# Altium schematic symbol library BFS17NTA.SchLib: 1 symbol
Pins are listed as number, name and electrical type; pins without a type are passive.

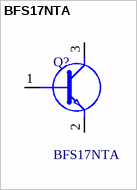
[diagram p0: symbol BFS17NTA]

## BFS17NTA
designator Q?
Diodes Inc BFS17NTA NPN RF Bipolar Transistor, 50 mA, 11 V, 3-Pin SOT-23; Manufacturer_Name: Diodes Incorporated; Geometry.Height: 1.2mm; Mouser Part Number: 522-BFS17NTA; Mouser Price/Stock: https://www.mouser.co.uk/ProductDetail/Diodes-Incorporated/BFS17NTA?qs=IL8dDCGN3dBzBLb4sVVPgQ%3D%3D; Manufacturer_Part_Number: BFS17NTA; Datasheet Link: https://www.diodes.com/assets/Datasheets/ds32160.pdf
footprint BFS17NTA
pins: 1 B, 2 E, 3 C